# EAGLE library part LED_TRIPLE-3MM_RIGHT-ANGLE_PTH (library CBI_LED_TRIPLE-3MM)
CBI LED Triple-3mm, Right Angle, PTH E.g.: LUMEX SSF-LXH340LYGID
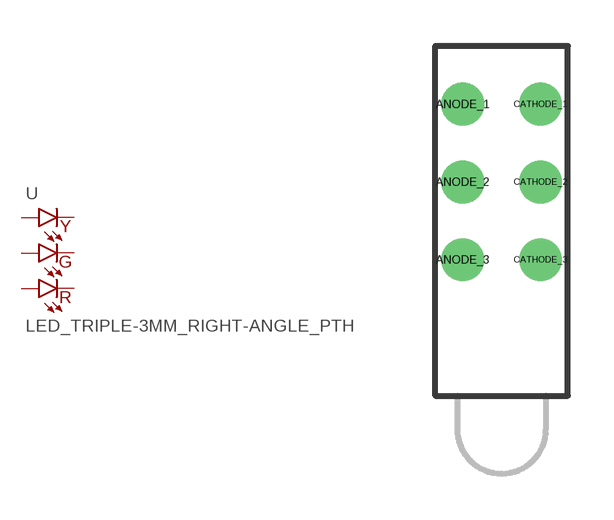
[diagram p0: symbol with the pads of CBI_LED_T-3MM_PTH; footprint CBI_LED_T-3MM_PTH]

Designator prefix -

## LED_TRIPLE-3MM_RIGHT-ANGLE_PTH_YELLOW_GREEN_RED (VALUE: Yellow Green Red)  [CBI_LED_T-3MM_PTH]
ANODE_1  YELLOW_ANODE  pas
ANODE_2  GREEN_ANODE  pas
ANODE_3  RED_ANODE  pas
CATHODE_1  YELLOW_CATHODE  pas
CATHODE_2  GREEN_CATHODE  pas
CATHODE_3  RED_CATHODE  pas

## Footprint CBI_LED_T-3MM_PTH (pad centres in mm)
CBI LED Triple-3mm E.g.: LUMEX SSF-LXH340LYGID
drill 0.889: ANODE_1 -1.27,9.525; ANODE_2 -1.27,6.985; ANODE_3 -1.27,4.445; CATHODE_1 1.27,9.525; CATHODE_2 1.27,6.985; CATHODE_3 1.27,4.445